# Altium footprint library Molded.PcbLib: 2 footprints
Each footprint in its own frame and in the unit in brackets; x right, y up, seen from the top. Pads: shape width x height; smd on the part's side, far side on the other; paste and mask are expansions set on the pad; w line width, h text height; cw(c..) or ccw(c..) is an arc to the next point about the centre after c.
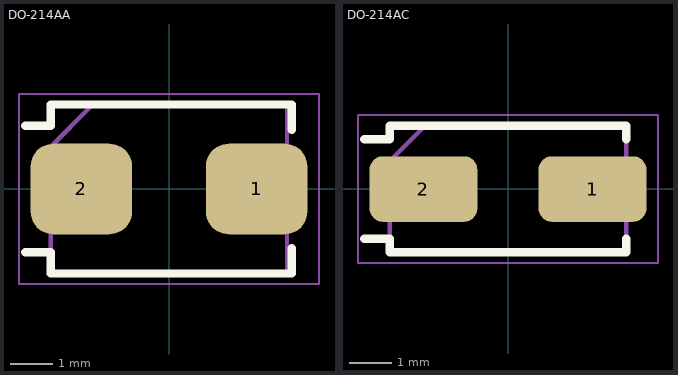
[diagram p0: the footprints below, top view; thin cyan lines are the x and y axes]

## DO-214AA [mm] "SMB Molded Diode, 2-Leads, Body 5.33x3.62mm, IPC Medium Density"
height 2.44
pads (2):
  rrect50% 2.4x2.15 smd: 1(2.075,0) 2(-2.075,0)
Top Overlay:
  lines w0.2: -3.4,-1.5 -2.8,-1.5 -2.8,-2 2.9,-2 2.9,-1.4 ; -3.4,1.5 -2.8,1.5 -2.8,2 2.9,2 2.9,1.4
Assembly:
  lines w0.1: -2.8,-1.97 -2.8,1 -1.83,1.97 2.795,1.97 2.795,-1.97 -2.8,-1.97
Courtyard:
  lines w0.05: -3.55,-2.25 -3.55,2.25 3.55,2.25 3.55,-2.25 -3.55,-2.25
3D body: height 2.44, standoff 0, extent -2.795,-1.97 2.795,1.97

## DO-214AC [mm] "SMA Molded Diode, 2-Leads, Body 5.20x2.61mm, IPC Medium Density"
height 2.3
pads (2):
  rrect40% 2.55x1.55 smd: 1(2,0) 2(-2,0)
Top Overlay:
  lines w0.2: -3.4,-1.175 -2.8,-1.175 -2.8,-1.5 2.8,-1.5 2.8,-1.175 ; -3.4,1.175 -2.8,1.175 -2.8,1.5 2.8,1.5 2.8,1.175
Assembly:
  lines w0.1: -2.8,-1.46 2.8,-1.46 2.8,1.46 -2,1.46 -2.8,0.66 -2.8,-1.46
Courtyard:
  lines w0.05: -3.55,-1.75 -3.55,1.75 3.55,1.75 3.55,-1.75 -3.55,-1.75
3D body: height 2.3, standoff 0, extent -2.8,-1.46 2.8,1.46